# Altium footprint library Jumper_Pcb.PcbLib: 1 footprints
Each footprint in its own frame and in the unit in brackets; x right, y up, seen from the top. Pads: shape width x height; smd on the part's side, far side on the other; paste and mask are expansions set on the pad; w line width, h text height; cw(c..) or ccw(c..) is an arc to the next point about the centre after c.
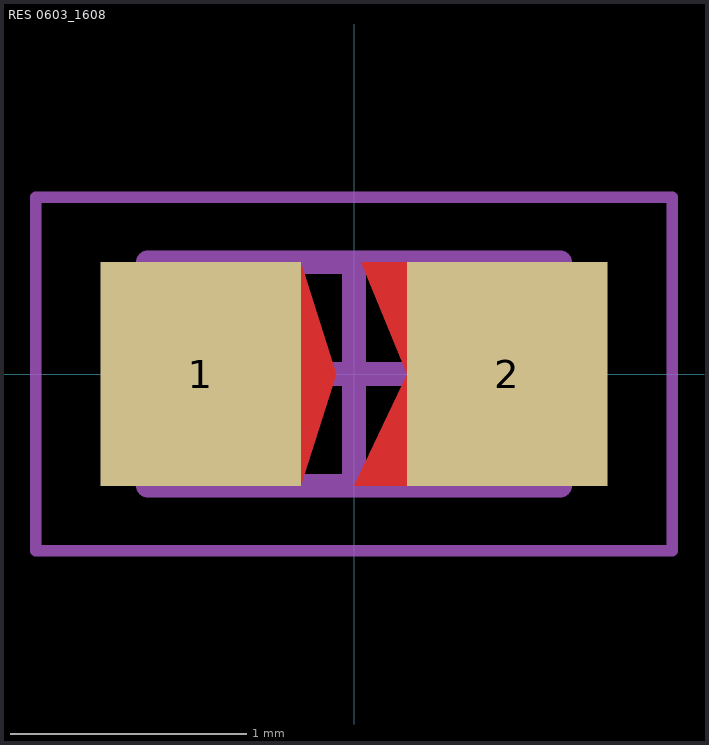
[diagram p0: the footprint, top view; thin cyan lines are the x and y axes]

## RES 0603_1608 [mm] "Chip Resistor, 2-Leads, Body 1.60x0.80mm, IPC Medium Density"
height 0.45
pads (2):
  rect 0.85x0.95 smd: 1(-0.65,0) 2(0.65,0)
Top Layer:
  region: -0.225,0.475 -0.225,0 -0.225,-0.475
  region: 0.031,0.475 0.225,0 0,-0.475 0.35,-0.475 0.35,0.475
  region: -0.5,0.475 -0.225,0.475 -0.075,0 -0.225,-0.475 -0.5,-0.475
Mechanical 13:
  lines w0.1: -0.875,-0.475 -0.875,0.475 0.875,0.475 0.875,-0.475 -0.875,-0.475
Mechanical 15:
  lines w0.05: -1.35,-0.75 -1.35,0.75 1.35,0.75 1.35,-0.75 -1.35,-0.75
  lines w0.1: -0.475,0 0.475,0 ; 0,-0.475 0,0.475